# Altium schematic symbol library 08053C334KAZ2A.SchLib: 1 symbol
Pins are listed as number, name and electrical type; pins without a type are passive.

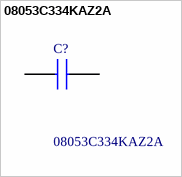
[diagram p0: symbol 08053C334KAZ2A]

## 08053C334KAZ2A
designator C?
AVX 330nF Multilayer Ceramic Capacitor (MLCC) 25 V 0805 SMT Max. Op. Temp. +125C; Manufacturer_Name: Kyocera AVX; Geometry.Height: 1.52mm; Mouser Part Number: *; Mouser Price/Stock: *; Manufacturer_Part_Number: 08053C334KAZ2A; Datasheet Link: *
footprint CAPC2012X152N
pins: 1, 2